# EAGLE library part OPENMV1 (library openmv)
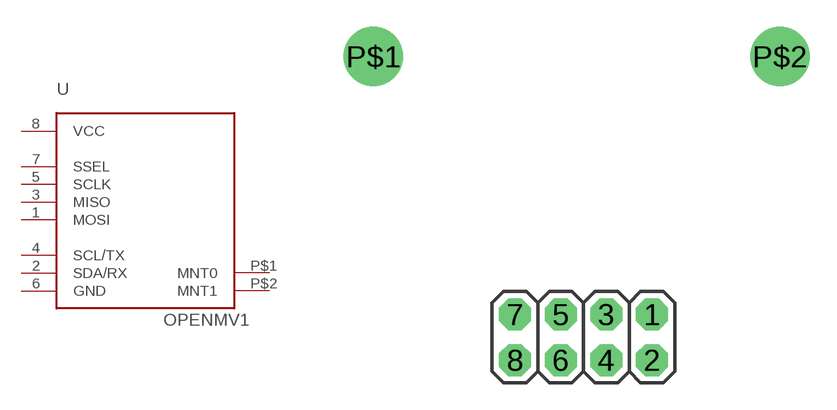
[diagram p0: symbol with the pads of OPENMV1; footprint OPENMV1]

Designator prefix -

## OPENMV1  [OPENMV1]
1  MOSI
2  SDA/RX
3  MISO
4  SCL/TX
5  SCLK
6  GND  sup
7  SSEL
8  VCC  sup
P$1  MNT0  sup
P$2  MNT1  sup

## Footprint OPENMV1 (pad centres in mm)
drill 1.016 pad 1.778 octagon: 1 17.526,4.953; 2 17.526,2.413; 3 14.986,4.953; 4 14.986,2.413; 5 12.446,4.953; 6 12.446,2.413; 7 9.906,4.953; 8 9.906,2.413
drill 2.286: P$1 2.032,19.304; P$2 24.638,19.304